# Altium footprint library WE-UKW.PcbLib: 9 footprints
Each footprint in its own frame and in the unit in brackets; x right, y up, seen from the top. Pads: shape width x height; smd on the part's side, far side on the other; paste and mask are expansions set on the pad; w line width, h text height; cw(c..) or ccw(c..) is an arc to the next point about the centre after c.
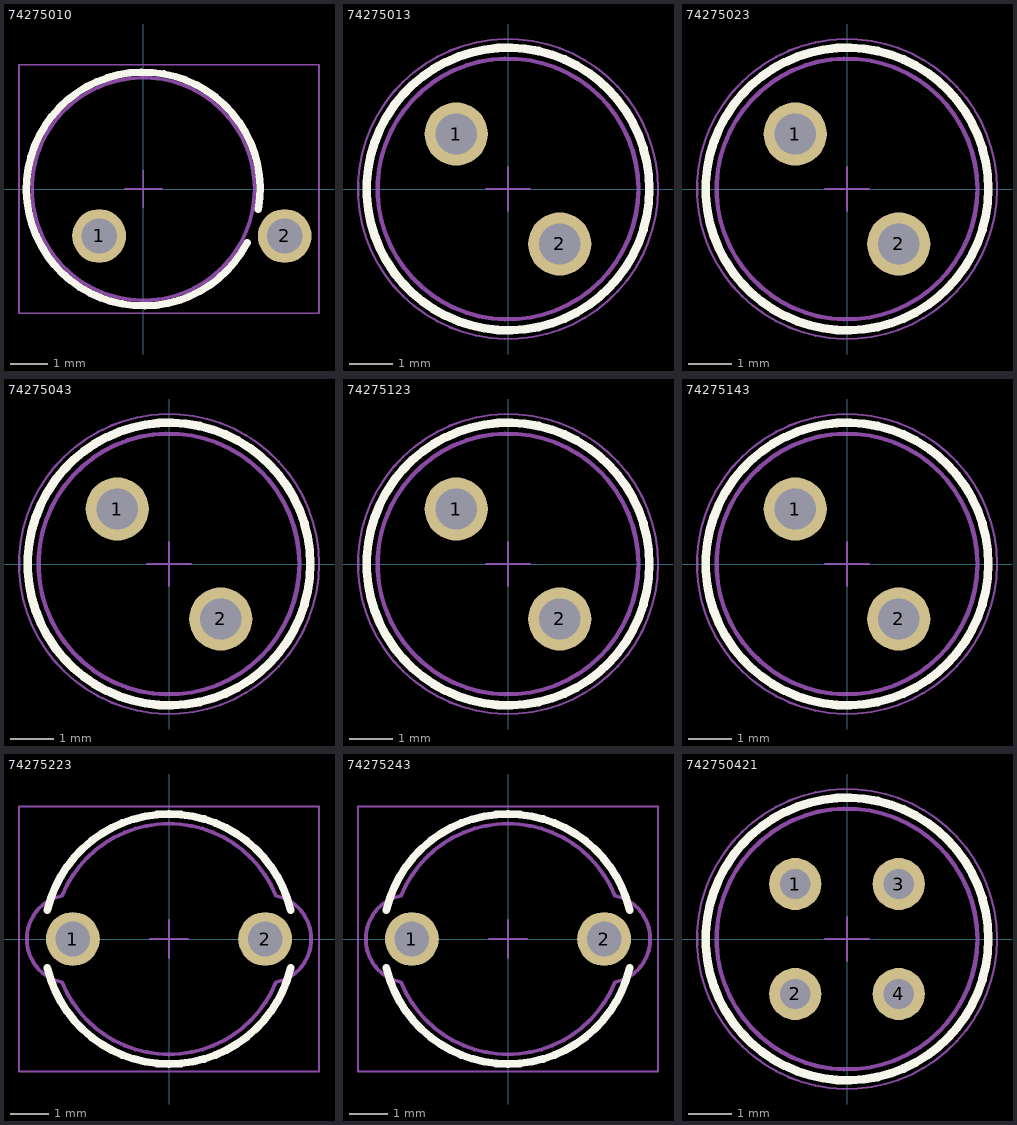
[diagram p0: the footprints below, top view; thin cyan lines are the x and y axes]

## 74275010 [mm] "EMI Suppression 6-Hole Ferrite Bead, body diameter 6mm"
height 10.4
pads (2):
  round 1.45 hole 0.95: 1(-1.19,-1.265) 2(3.81,-1.265)
Top Overlay:
  lines w0.2: 2.797,-1.449 cw(c0,0) 3.102,-0.55
Top Component Outline:
  circle w0.1: c0,0 r3
Top Courtyard:
  lines w0.05: -3.35,-3.35 4.735,-3.35 4.735,3.35 -3.35,3.35 -3.35,-3.35
Top Component Center:
  lines w0.05: -0.5,0 0.5,0 ; 0,-0.5 0,0.5
Top Designator (Mech19):
  text ".Designator" at -5.998,-0.4 h1.2
3D body "74275010.stp": height 11.19, standoff -4.35, extent -3,-3 4.003,3

## 74275013 [mm] "EMI Suppression 6-Hole Ferrite Bead, body diameter 6mm"
height 10.5
pads (2):
  round 1.45 hole 0.95: 1(-1.19,1.265) 2(1.19,-1.265)
Top Overlay:
  circle w0.2: c0,0 r3.25
Top Component Outline:
  circle w0.1: c0,0 r3
Top Courtyard:
  circle w0.05: c0,0 r3.45
Top Component Center:
  lines w0.05: -0.5,0 0.5,0 ; 0,-0.5 0,0.5
Top Designator (Mech19):
  text ".Designator" at -5.998,-0.4 h1.2
3D body "74275013.stp": height 12.55, standoff -18.7, extent -3,-3 3,3

## 74275023 [mm] "EMI Suppression 6-Hole Ferrite Bead, body diameter 6mm"
height 10.5
pads (2):
  round 1.45 hole 0.95: 1(-1.19,1.265) 2(1.19,-1.265)
Top Overlay:
  circle w0.2: c0,0 r3.25
Top Component Outline:
  circle w0.1: c0,0 r3
Top Courtyard:
  circle w0.05: c0,0 r3.45
Top Component Center:
  lines w0.05: -0.5,0 0.5,0 ; 0,-0.5 0,0.5
Top Designator (Mech19):
  text ".Designator" at -5.998,-0.4 h1.2
3D body "74275023.stp": height 12.55, standoff -18.7, extent -3,-3 3,3

## 74275043 [mm] "EMI Suppression 6-Hole Ferrite Bead, body diameter 6mm"
height 10.5
pads (2):
  round 1.45 hole 0.95: 1(-1.19,1.265) 2(1.19,-1.265)
Top Overlay:
  circle w0.2: c0,0 r3.25
Top Component Outline:
  circle w0.1: c0,0 r3
Top Courtyard:
  circle w0.05: c0,0 r3.45
Top Component Center:
  lines w0.05: -0.5,0 0.5,0 ; 0,-0.5 0,0.5
Top Designator (Mech19):
  text ".Designator" at -5.998,-0.4 h1.2
3D body "74275043.stp": height 12.54, standoff -36.7, extent -3,-3 3,3

## 74275123 [mm] "EMI Suppression 6-Hole Ferrite Bead, body diameter 6mm"
height 10.5
pads (2):
  round 1.45 hole 0.95: 1(-1.19,1.265) 2(1.19,-1.265)
Top Overlay:
  circle w0.2: c0,0 r3.25
Top Component Outline:
  circle w0.1: c0,0 r3
Top Courtyard:
  circle w0.05: c0,0 r3.45
Top Component Center:
  lines w0.05: -0.5,0 0.5,0 ; 0,-0.5 0,0.5
Top Designator (Mech19):
  text ".Designator" at -5.998,-0.4 h1.2
3D body "74275123.stp": height 12.55, standoff -4.7, extent -3,-3 3,3

## 74275143 [mm] "EMI Suppression 6-Hole Ferrite Bead, body diameter 6mm"
height 10.5
pads (2):
  round 1.45 hole 0.95: 1(-1.19,1.265) 2(1.19,-1.265)
Top Overlay:
  circle w0.2: c0,0 r3.25
Top Component Outline:
  circle w0.1: c0,0 r3
Top Courtyard:
  circle w0.05: c0,0 r3.45
Top Component Center:
  lines w0.05: -0.5,0 0.5,0 ; 0,-0.5 0,0.5
Top Designator (Mech19):
  text ".Designator" at -5.998,-0.4 h1.2
3D body "74275143.stp": height 12.54, standoff -3.44, extent -3,-3 3,3

## 74275223 [mm] "EMI Suppression 6-Hole Ferrite Bead, body diameter 6mm"
height 15
pads (2):
  round 1.4 hole 0.9: 1(-2.5,0) 2(2.5,0)
Top Overlay:
  lines w0.2: -3.162,-0.753 ccw(c0,0) 3.162,-0.753 ; -3.162,0.753 cw(c0,0) 3.162,0.753
Top Component Outline:
  lines w0.1: -2.78,-1.127 ccw(c0,0) 2.78,-1.127 ccw(c2.55,0) 2.78,1.127 ccw(c0,0) -2.78,1.127 ccw(c-2.55,0) -2.78,-1.127
Top Courtyard:
  lines w0.05: -3.9,-3.45 3.9,-3.45 3.9,3.45 -3.9,3.45 -3.9,-3.45
Top Component Center:
  lines w0.05: -0.5,0 0.5,0 ; 0,-0.5 0,0.5
Top Designator (Mech19):
  text ".Designator" at -5.998,-0.4 h1.2
3D body "74275223.stp": height 15.09, standoff -3.41, extent -4.243,-4.243 4.243,4.243

## 74275243 [mm] "EMI Suppression 6-Hole Ferrite Bead, body diameter"
height 15
pads (2):
  round 1.4 hole 0.9: 1(-2.5,0) 2(2.5,0)
Top Overlay:
  lines w0.2: -3.162,-0.753 ccw(c0,0) 3.162,-0.753 ; -3.162,0.753 cw(c0,0) 3.162,0.753
Top Component Outline:
  lines w0.1: -2.78,-1.127 ccw(c0,0) 2.78,-1.127 ccw(c2.55,0) 2.78,1.127 ccw(c0,0) -2.78,1.127 ccw(c-2.55,0) -2.78,-1.127
Top Courtyard:
  lines w0.05: -3.9,-3.45 3.9,-3.45 3.9,3.45 -3.9,3.45 -3.9,-3.45
Top Component Center:
  lines w0.05: -0.5,0 0.5,0 ; 0,-0.5 0,0.5
Top Designator (Mech19):
  text ".Designator" at -5.998,-0.4 h1.2
3D body "74275243.stp": height 15.09, standoff -3.41, extent -4.243,-4.243 4.243,4.243

## 742750421 [mm] "EMI Suppression 6-Hole Ferrite Bead, body diameter 6mm"
height 10.5
pads (4):
  round 1.2 hole 0.7: 1(-1.19,1.265) 2(-1.19,-1.265) 3(1.19,1.265) 4(1.19,-1.265)
Top Overlay:
  circle w0.2: c0,0 r3.25
Top Component Outline:
  circle w0.1: c0,0 r3
Top Courtyard:
  circle w0.05: c0,0 r3.45
Top Component Center:
  lines w0.05: -0.5,0 0.5,0 ; 0,-0.5 0,0.5
Top Designator (Mech19):
  text ".Designator" at -5.998,-0.4 h1.2
3D body "742750421.stp": height 11.35, standoff -3.9, extent -3,-3 3,3